# Altium schematic symbol library tps65263qrhbrq1.SchLib: 1 symbol
Pins are listed as number, name and electrical type; pins without a type are passive.

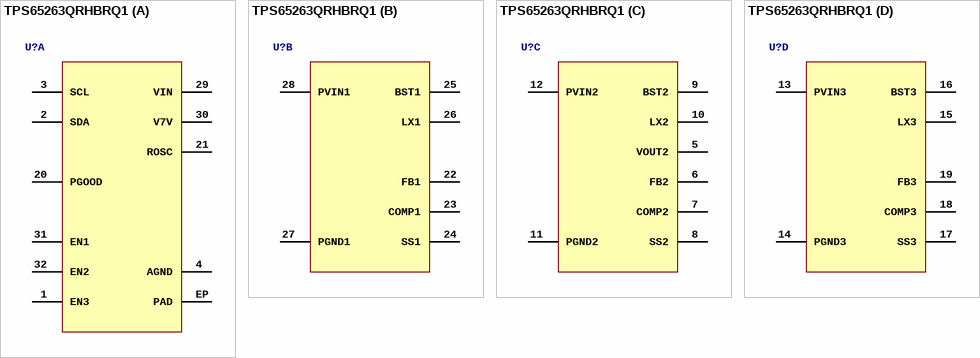
[diagram p0: symbol TPS65263QRHBRQ1]

## TPS65263QRHBRQ1
designator U?
Switching Regulator, Current-mode, 3A, 2300kHz Switching Freq-Max, PQCC32
part A pins: 1 EN3, 2 SDA, 3 SCL, 4 AGND, 20 PGOOD, 21 ROSC, 29 VIN, 30 V7V, 31 EN1, 32 EN2, EP PAD
part B pins: 22 FB1, 23 COMP1, 24 SS1, 25 BST1, 26 LX1, 27 PGND1, 28 PVIN1
part C pins: 5 VOUT2, 6 FB2, 7 COMP2, 8 SS2, 9 BST2, 10 LX2, 11 PGND2, 12 PVIN2
part D pins: 13 PVIN3, 14 PGND3, 15 LX3, 16 BST3, 17 SS3, 18 COMP3, 19 FB3